# EAGLE library part ADA_PCA9685 (library Richard_Boards)
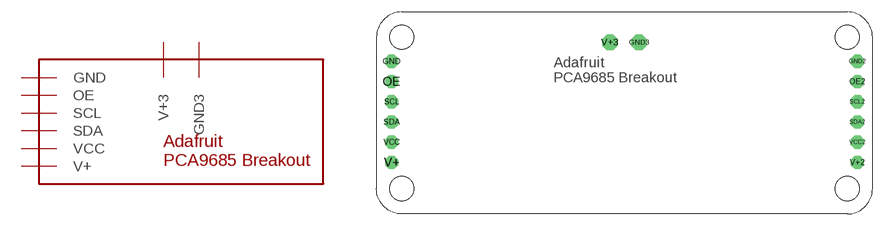
[diagram p4: symbol with the pads of ADA_PCA9685; footprint ADA_PCA9685]

Designator prefix -

## ADA_PCA9685  [ADA_PCA9685]
GND  GND
GND2  GND
GND3  GND3
OE  OE
OE2  OE
SCL  SCL
SCL2  SCL
SDA  SDA
SDA2  SDA
V+  V+
V+2  V+
V+3  V+3
VCC  VCC
VCC2  VCC

## Footprint ADA_PCA9685 (pad centres in mm)
drill 1.1 octagon: GND -29.21,19.177; GND2 29.21,19.177; OE -29.21,16.637; OE2 29.21,16.637; SCL -29.21,14.097; SCL2 29.21,14.097; SDA -29.21,11.557; SDA2 29.21,11.557; V+ -29.21,6.477; V+2 29.21,6.477; VCC -29.21,9.017; VCC2 29.21,9.017
drill 1.3 octagon: GND3 1.841,21.59; V+3 -1.841,21.59